# EAGLE library part LM339 (library HermitRetro)
LM339 Quad Comparator
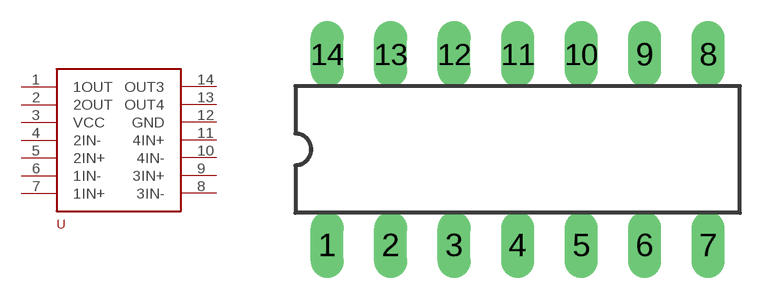
[diagram p24: symbol with the pads of DIL14; footprint DIL14]

Designator prefix -

## LM339-DIP (UNIT_PRICE: 0.92; VENDOR_ID: RS Components; VENDOR_SKU: 5338237)  [DIL14]
1  1OUT
2  2OUT
3  VCC
4  2IN-
5  2IN+
6  1IN-
7  1IN+
8  3IN-
9  3IN+
10  4IN-
11  4IN+
12  GND
13  OUT4
14  OUT3

## Footprint DIL14 (pad centres in mm)
Dual In Line package type P
drill 0.813 long: 1 -10.16,-3.81; 2 -7.62,-3.81; 3 -5.08,-3.81; 4 -2.54,-3.81; 5 0,-3.81; 6 2.54,-3.81; 7 5.08,-3.81; 8 5.08,3.81; 9 2.54,3.81; 10 0,3.81; 11 -2.54,3.81; 12 -5.08,3.81; 13 -7.62,3.81; 14 -10.16,3.81